# EAGLE library part L70B-GPS (library components)
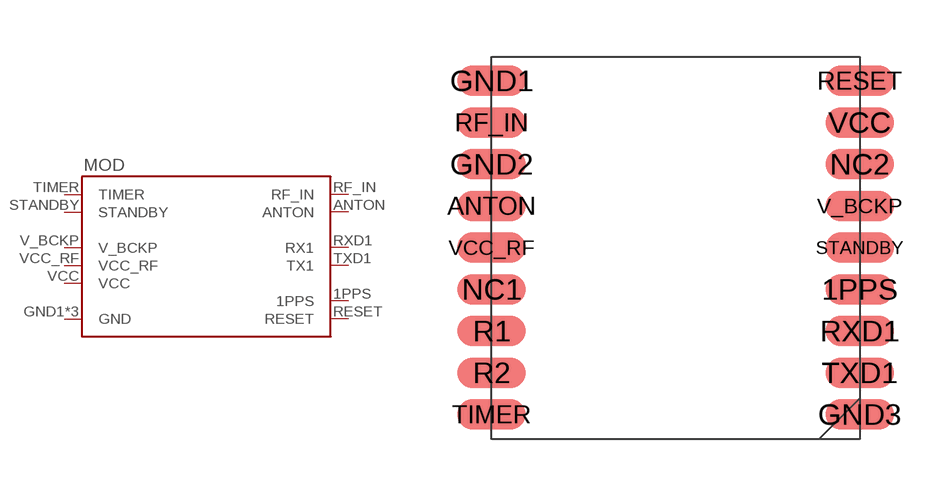
[diagram p0: symbol with the pads of L70B-GPS; footprint L70B-GPS]

Designator prefix MOD

## L70B-GPS  [L70B-GPS]
1PPS  1PPS  out
ANTON  ANTON  in
GND1  GND  pwr
GND2  GND  pwr
GND3  GND  pwr
RESET  RESET
RF_IN  RF_IN  out
RXD1  RX1  out
STANDBY  STANDBY  in
TIMER  TIMER  in
TXD1  TX1  in
V_BCKP  V_BCKP
VCC  VCC  pwr
VCC_RF  VCC_RF

## Footprint L70B-GPS (pad centres in mm)
smd 1.8 x 0.8: 1PPS 9.7,3.3; ANTON 0,5.5; GND1 0,8.8; GND2 0,6.6; GND3 9.7,0; NC1 0,3.3; NC2 9.7,6.6; R1 0,2.2; R2 0,1.1; RESET 9.7,8.8; RF_IN 0,7.7; RXD1 9.7,2.2; STANDBY 9.7,4.4; TIMER 0,0; TXD1 9.7,1.1; V_BCKP 9.7,5.5; VCC 9.7,7.7; VCC_RF 0,4.4